# EAGLE library part 09 (library Erni-MicroStack)
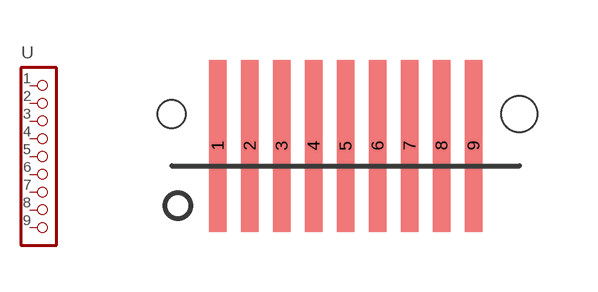
[diagram p1: symbol with the pads of 09X1; footprint 09X1]

Designator prefix -

## 09  [09X1]
1  1
2  2
3  3  pas
4  4  pas
5  5  pas
6  6  pas
7  7  pas
8  8  pas
9  9  pas

## Footprint 09X1 (pad centres in mm)
smd 0.44 x 4.3: 1 -3.2,0.5; 2 -2.4,0.5; 3 -1.6,0.5; 4 -0.8,0.5; 5 0,0.5; 6 0.8,0.5; 7 1.6,0.5; 8 2.4,0.5; 9 3.2,0.5
hole 0.7 at -4.35,1.3
hole 0.9 at 4.35,1.3